# Altium footprint library Connector_Phoenix_MC.PcbLib: 180 footprints (part 12 of 12)
Each footprint in its own frame and in the unit in brackets; x right, y up, seen from the top. Pads: shape width x height; smd on the part's side, far side on the other; paste and mask are expansions set on the pad; w line width, h text height; cw(c..) or ccw(c..) is an arc to the next point about the centre after c.
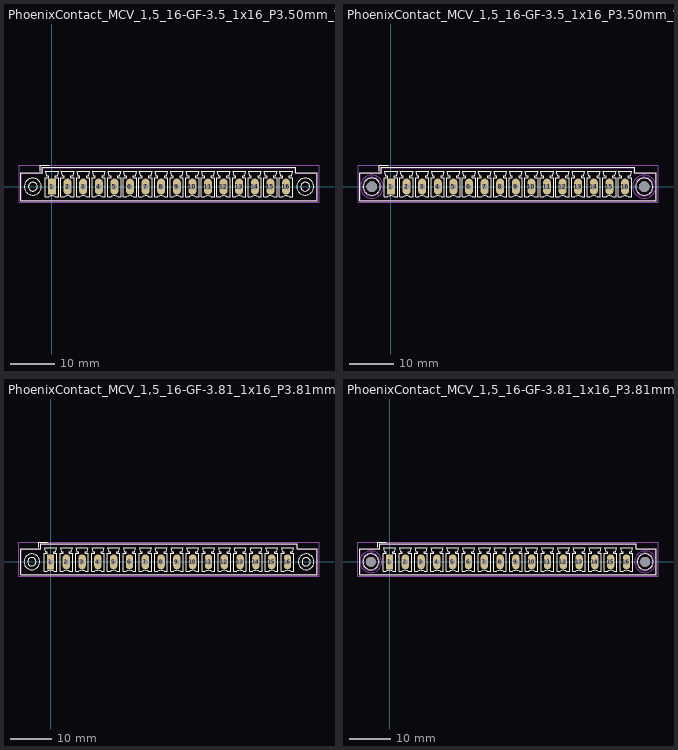
[diagram p11: the footprints below, top view; thin cyan lines are the x and y axes]

## PhoenixContact_MCV_1,5_16-GF-3.5_1x16_P3.50mm_Vertical_ThreadedFlange [mm]
pads (16):
  rrect14% 1.8x3.6 hole 1.2: 1(0,0)
  rrect100% 1.8x3.6 hole 1.2: 2(3.5,0) 3(7,0) 4(10.5,0) 5(14,0) 6(17.5,0) 7(21,0) 8(24.5,0) 9(28,0) 10(31.5,0) 11(35,0) 12(38.5,0) 13(42,0) 14(45.5,0) 15(49,0) 16(52.5,0)
F.SilkS:
  drawing of 238 lines, arcs and shapes, not listed
Top Assembly:
  lines w0.254: -2.6,3.5 -2.6,4.75 -0.6,4.75 ; -6.9,-3 59.4,-3 59.4,3 54.6,3 54.6,4.25 -2.1,4.25 -2.1,3 -6.9,3 -6.9,-3
  text "'.Designator'" at 22.203,2.71 h1
Top Courtyard:
  lines w0.254: -7.4,-3.5 59.9,-3.5 59.9,4.75 -7.4,4.75 -7.4,-3.5
Top Designator:
  text ".Designator" at 18.632,0.117 h1.52

## PhoenixContact_MCV_1,5_16-GF-3.5_1x16_P3.50mm_Vertical_ThreadedFlange_MountHole [mm]
pads (18):
  rrect14% 1.8x3.6 hole 1.2: 1(0,0)
  rrect100% 1.8x3.6 hole 1.2: 2(3.5,0) 3(7,0) 4(10.5,0) 5(14,0) 6(17.5,0) 7(21,0) 8(24.5,0) 9(28,0) 10(31.5,0) 11(35,0) 12(38.5,0) 13(42,0) 14(45.5,0) 15(49,0) 16(52.5,0)
  round 2.4 hole 2.4: Un1(-4.3,0) Un2(56.8,0)
F.SilkS:
  drawing of 236 lines, arcs and shapes, not listed
B.SilkS:
  circle w0.254: c56.8,0 r2.21
  circle w0.254: c-4.3,0 r2.21
Top Assembly:
  lines w0.254: -2.6,3.5 -2.6,4.75 -0.6,4.75 ; -6.9,-3 59.4,-3 59.4,3 54.6,3 54.6,4.25 -2.1,4.25 -2.1,3 -6.9,3 -6.9,-3
  text "'.Designator'" at 22.203,2.71 h1
Bottom Assembly:
  circle w0.254: c56.8,0 r2.1
  circle w0.254: c-4.3,0 r2.1
Top Courtyard:
  lines w0.254: -7.4,-3.5 59.9,-3.5 59.9,4.75 -7.4,4.75 -7.4,-3.5
Bottom Courtyard:
  circle w0.254: c56.8,0 r2.6
  circle w0.254: c-4.3,0 r2.6
Top Designator:
  text ".Designator" at 18.632,0.117 h1.52

## PhoenixContact_MCV_1,5_16-GF-3.81_1x16_P3.81mm_Vertical_ThreadedFlange [mm]
pads (16):
  rrect14% 1.8x3.6 hole 1.2: 1(0,0)
  rrect100% 1.8x3.6 hole 1.2: 2(3.81,0) 3(7.62,0) 4(11.43,0) 5(15.24,0) 6(19.05,0) 7(22.86,0) 8(26.67,0) 9(30.48,0) 10(34.29,0) 11(38.1,0) 12(41.91,0) 13(45.72,0) 14(49.53,0) 15(53.34,0) 16(57.15,0)
F.SilkS:
  drawing of 238 lines, arcs and shapes, not listed
Top Assembly:
  lines w0.254: -2.8,3.5 -2.8,4.75 -0.8,4.75 ; -7.1,-3 64.25,-3 64.25,3 59.45,3 59.45,4.25 -2.3,4.25 -2.3,3 -7.1,3 -7.1,-3
  text "'.Designator'" at 24.533,2.71 h1
Top Courtyard:
  lines w0.254: -7.6,-3.5 64.75,-3.5 64.75,4.75 -7.6,4.75 -7.6,-3.5
Top Designator:
  text ".Designator" at 20.957,0.117 h1.52

## PhoenixContact_MCV_1,5_16-GF-3.81_1x16_P3.81mm_Vertical_ThreadedFlange_MountHole [mm]
pads (18):
  rrect14% 1.8x3.6 hole 1.2: 1(0,0)
  rrect100% 1.8x3.6 hole 1.2: 2(3.81,0) 3(7.62,0) 4(11.43,0) 5(15.24,0) 6(19.05,0) 7(22.86,0) 8(26.67,0) 9(30.48,0) 10(34.29,0) 11(38.1,0) 12(41.91,0) 13(45.72,0) 14(49.53,0) 15(53.34,0) 16(57.15,0)
  round 2.4 hole 2.4: Un1(-4.5,0) Un2(61.65,0)
F.SilkS:
  drawing of 236 lines, arcs and shapes, not listed
B.SilkS:
  circle w0.254: c61.65,0 r2.21
  circle w0.254: c-4.5,0 r2.21
Top Assembly:
  lines w0.254: -2.8,3.5 -2.8,4.75 -0.8,4.75 ; -7.1,-3 64.25,-3 64.25,3 59.45,3 59.45,4.25 -2.3,4.25 -2.3,3 -7.1,3 -7.1,-3
  text "'.Designator'" at 24.533,2.71 h1
Bottom Assembly:
  circle w0.254: c61.65,0 r2.1
  circle w0.254: c-4.5,0 r2.1
Top Courtyard:
  lines w0.254: -7.6,-3.5 64.75,-3.5 64.75,4.75 -7.6,4.75 -7.6,-3.5
Bottom Courtyard:
  circle w0.254: c61.65,0 r2.6
  circle w0.254: c-4.5,0 r2.6
Top Designator:
  text ".Designator" at 20.957,0.117 h1.52